# Altium schematic symbol library triac.SchLib: 34 symbols
Pins are listed as number, name and electrical type; pins without a type are passive.

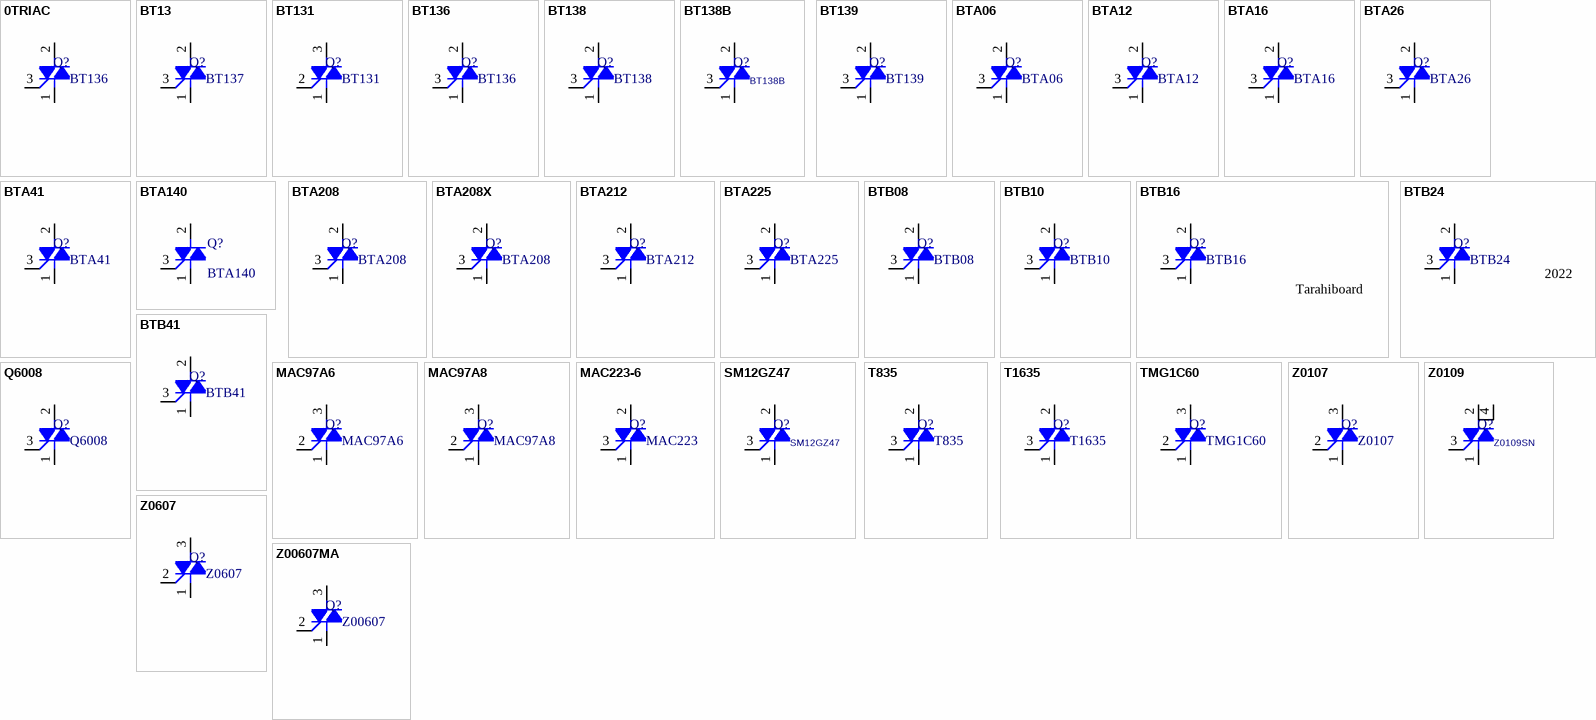
[diagram p0: symbols 0TRIAC to Z00607MA]

## 0TRIAC
designator Q?  value BT136
Triac, 600V, 4A, TO-220, Silicon Bidirectional Thyristor; DatasheetVersion: 2022
footprint TO220
footprint TO220-2
footprint TO220-Right
pins: 1 T1, 2 T2, 3 G

## BT13
designator Q?  value BT137
Triac, 600V, 8A, TO-220; DatasheetVersion: 2022
footprint TO220
footprint TO220-2
footprint TO220-Right
pins: 1 T1, 2 T2, 3 G

## BT131
designator Q?  value BT131
Triac, 600V, 1A, TO-92; DatasheetVersion: 2022
footprint TO92
footprint TO92 STR
pins: 1 T1, 2 G, 3 T2

## BT136
designator Q?  value BT136
Triac, 600V, 4A, TO-220; DatasheetVersion: 2022
footprint TO220
footprint TO220-2
footprint TO220-Right
pins: 1 T1, 2 T2, 3 G

## BT138
designator Q?  value BT138
Triac, 800V, 12A, TO-220; DatasheetVersion: 2022
footprint TO220
footprint TO220-2
footprint TO220-Right
pins: 1 T1, 2 T2, 3 G

## BT138B
designator Q?  value BT138B
Triac, 600V, 12A, D2PAK SMD; DatasheetVersion: 2022
footprint TO252
pins: 1 T1, 2 T2, 3 G

## BT139
designator Q?  value BT139
Triac, 600V, 16A, TO-220; DatasheetVersion: 2022
footprint TO220
footprint TO220-2
footprint TO220-Right
pins: 1 T1, 2 T2, 3 G

## BTA06
designator Q?  value BTA06
Triac, 600V, 6A, TO-220; DatasheetVersion: 2022
footprint TO220
footprint TO220-2
footprint TO220-Right
pins: 1 T1, 2 T2, 3 G

## BTA12
designator Q?  value BTA12
Triac, 600V, 12A, TO-220; DatasheetVersion: 2022
footprint TO220
footprint TO220-2
footprint TO220-Right
pins: 1 T1, 2 T2, 3 G

## BTA16
designator Q?  value BTA16
Triac, 800V, 16A, TO-220; DatasheetVersion: 2022
footprint TO252
footprint TO220
footprint TO220-2
footprint TO220-Right
pins: 1 T1, 2 T2, 3 G

## BTA26
designator Q?  value BTA26
Triac, 600V, 25A, TOP3; DatasheetVersion: 2022
footprint TO247
footprint TO247 Right
footprint TO247 Right Hit
pins: 1 T1, 2 T2, 3 G

## BTA41
designator Q?  value BTA41
Triac, 600V, 40A, TOP3; DatasheetVersionParameter 1: 2022
footprint TO247
footprint TO247 Right
footprint TO247 Right Hit
pins: 1 T1, 2 T2, 3 G

## BTA140
designator Q?  value BTA140
Triac, 600V, 25A, TO-220; DatasheetVersion: 2022
footprint TO220
footprint TO220-2
footprint TO220-Right
pins: 1 T1, 2 T2, 3 G

## BTA208
designator Q?  value BTA208
Triac, 800V, 8A, TO-220; DatasheetVersion: 2022
footprint TO220
footprint TO220-2
footprint TO220-Right
pins: 1 T1, 2 T2, 3 G

## BTA208X
designator Q?  value BTA208
Triac, 1000V, 8A, TO-220; DatasheetVersion: 2022
footprint TO220
footprint TO220-2
footprint TO220-Right
pins: 1 T1, 2 T2, 3 G

## BTA212
designator Q?  value BTA212
Triac, 600V, 12A, TO-220; DatasheetVersion: 2022
footprint TO220
footprint TO220-2
footprint TO220-Right
pins: 1 T1, 2 T2, 3 G

## BTA225
designator Q?  value BTA225
Triac, 600V, 25A, TO-220; DatasheetVersion: 2022
footprint TO220
footprint TO220-2
footprint TO220-Right
pins: 1 T1, 2 T2, 3 G

## BTB08
designator Q?  value BTB08
Triac, 600V, 8A, TO-220; DatasheetVersion: 2022
footprint TO220
footprint TO220-2
footprint TO220-Right
pins: 1 T1, 2 T2, 3 G

## BTB10
designator Q?  value BTB10
Triac, 800V, 10A, TO-220; DatasheetVersion: 2022
footprint TO220
footprint TO220-2
footprint TO220-Right
pins: 1 T1, 2 T2, 3 G

## BTB16
designator Q?  value BTB16
Triac, 700V, 16A, TO-220; DatasheetVersion: 2022
footprint TO220
footprint TO220-2
footprint TO220-Right
pins: 1 T1, 2 T2, 3 G
text: Tarahiboard

## BTB24
designator Q?  value BTB24
Triac, 600V, 25A, TO-220; DatasheetVersion: 2022
footprint TO220
footprint TO220-2
footprint TO220-Right
pins: 1 T1, 2 T2, 3 G

## BTB41
designator Q?  value BTB41
Triac, 600V, 40A, TOP3; DatasheetVersion: 2022
footprint TO247
footprint TO247 Right
footprint TO247 Right Hit
pins: 1 T1, 2 T2, 3 G

## MAC97A6
designator Q?  value MAC97A6
Triac, 400V, 0.6A, TO-92; DatasheetVersion: 2022
footprint TO92
footprint TO92 STR
pins: 1 T1, 2 G, 3 T2

## MAC97A8
designator Q?  value MAC97A8
Triac, 600V, 0.6A, TO-92; DatasheetVersion: 2022
footprint TO92
footprint TO92 STR
pins: 1 T1, 2 G, 3 T2

## MAC223-6
designator Q?  value MAC223
Triac, 400V, 25A, TO-220; DatasheetVersion: 2022
footprint TO220
footprint TO220-2
footprint TO220-Right
pins: 1 T1, 2 T2, 3 G

## Q6008
designator Q?  value Q6008
Triac, 600V, 8A, TO-220; DatasheetVersion: 2022
footprint TO220-2
footprint TO220-Right
pins: 1 T1, 2 T2, 3 G

## SM12GZ47
designator Q?  value SM12GZ47
Triac, 400V, 12A, TO-220; DatasheetVersion: 2022
footprint TO220-2
footprint TO220-Right
pins: 1 T1, 2 T2, 3 G

## T835
designator Q?  value T835
Triac, 600V, 8A, D2PAK SMD; DatasheetVersion: 2022
footprint TO252
pins: 1 T1, 2 T2, 3 G

## T1635
designator Q?  value T1635
Triac, 600V, 16A, D2PAK SMD; DatasheetVersion: 2022
footprint TO252
pins: 1 T1, 2 T2, 3 G

## TMG1C60
designator Q?  value TMG1C60
Triac, 600V, 1A, TO-92; DatasheetVersion: 2022
footprint TO92
footprint TO92 STR
pins: 1 T1, 2 G, 3 T2

## Z0107
designator Q?  value Z0107
Triac, 600V, 1A, TO-92; DatasheetVersion: 2022
footprint TO92
footprint TO92 STR
pins: 1 T1, 2 G, 3 T2

## Z0109
designator Q?  value Z0109SN
Triac, 600V, 1A, SOT-223 SMD; DatasheetVersion: 2022
footprint SOT223
pins: 1 T1, 2 T2, 3 G, 4 T2T

## Z0607
designator Q?  value Z0607
Triac, 600V, 0.8A, TO-92; DatasheetVersion: 2022
footprint TO92
footprint TO92 STR
pins: 1 T1, 2 G, 3 T2

## Z00607MA
designator Q?  value Z00607
Triac, 600V, 0.8A, TO-92; DatasheetVersion: 2022
footprint TO92
footprint TO92 STR
pins: 1 T1, 2 G, 3 T2